# Altium footprint library SOP-4.PcbLib: 1 footprints
Each footprint in its own frame and in the unit in brackets; x right, y up, seen from the top. Pads: shape width x height; smd on the part's side, far side on the other; paste and mask are expansions set on the pad; w line width, h text height; cw(c..) or ccw(c..) is an arc to the next point about the centre after c.
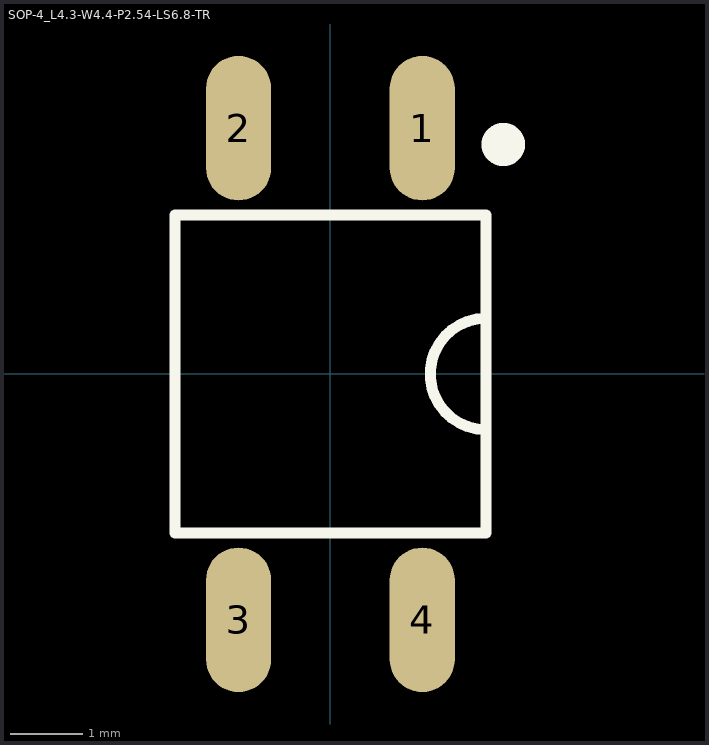
[diagram p0: the footprint, top view; thin cyan lines are the x and y axes]

## SOP-4_L4.3-W4.4-P2.54-LS6.8-TR [mm]
pads (4):
  oval 0.9x2 smd paste+0 mask+0.051: 1(1.27,3.4) 2(-1.27,3.4) 3(-1.27,-3.4) 4(1.27,-3.4)
Top Overlay:
  lines w0.152: 2.15,0.771 ccw(c2.15,0) 2.151,-0.771 ; -2.15,-2.2 -2.15,2.2 2.15,2.2 2.15,-2.2 -2.15,-2.2
  lines w0.3: 2.54,3.172 cw(c2.39,3.173) 2.54,3.175